# Altium schematic symbol library GT12MSCBE.SchLib: 1 symbol
Pins are listed as number, name and electrical type; pins without a type are passive.

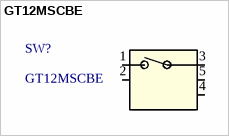
[diagram p0: symbol GT12MSCBE]

## GT12MSCBE
designator SW?
No Description Available; Mfr_Name: C&K; Copyright: Copyright (C) 2022 Ultra Librarian. All rights reserved.; Manufacturer_Part_Number: GT12MSCBE; Digi-Key_Part_Number_1: CKN9050TR-ND; Digi-Key_Part_Number_2: CKN9050CT-ND; Digi-Key_Part_Number_3: CKN9050DKR-ND; Digi-Key_Part_Number_4: CKN9050TR-NDL; RefDes: RefDes; Type: DEV
footprint SW5_GT12MSCBE_CNK
pins: 1, 2, 3, 4, 5 6